# EAGLE library part IS31FL3743B (library ts_kb_mcu)
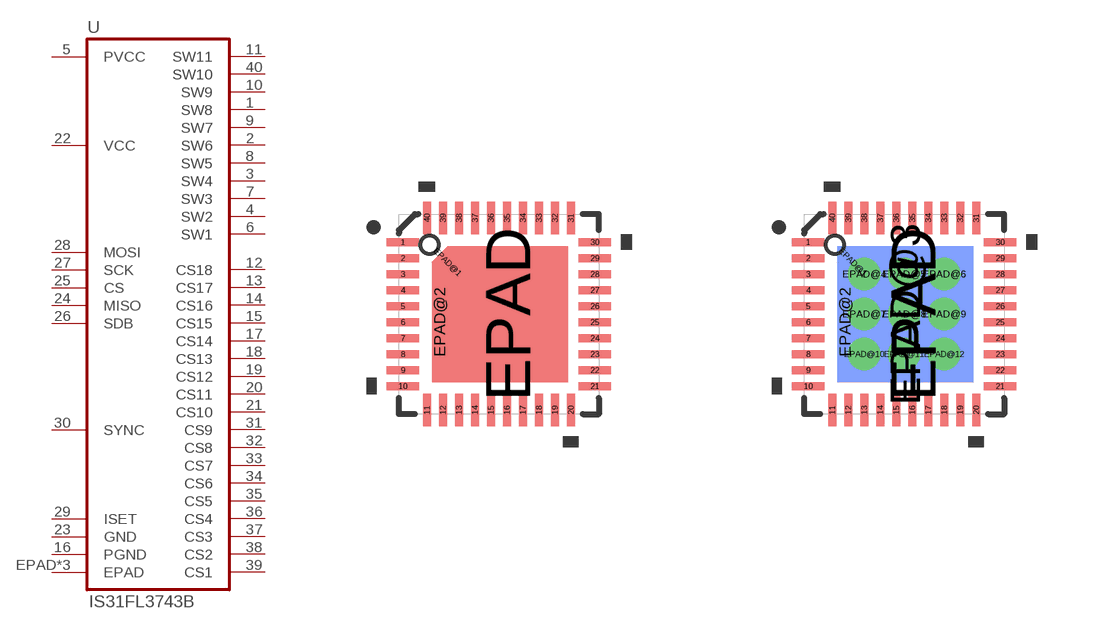
[diagram p4: symbol with the pads of UQFN40; footprints UQFN40, UQFN40_THERM]

Designator prefix -

## IS31FL3743B  [UQFN40]
1  SW8  pas
2  SW6  pas
3  SW4
4  SW2
5  PVCC
6  SW1
7  SW3
8  SW5  pas
9  SW7  pas
10  SW9  pas
11  SW11  pas
12  CS18
13  CS17
14  CS16
15  CS15
16  PGND
17  CS14
18  CS13
19  CS12
20  CS11
21  CS10
22  VCC
23  GND
24  MISO
25  CS
26  SDB
27  SCK
28  MOSI
29  ISET
30  SYNC  pas
31  CS9
32  CS8
33  CS7
34  CS6
35  CS5
36  CS4
37  CS3
38  CS2
39  CS1
40  SW10  pas
EPAD  EPAD
EPAD@1  EPAD
EPAD@2  EPAD

## IS31FL3743BTHERM  [UQFN40_THERM]
1  SW8  pas
2  SW6  pas
3  SW4
4  SW2
5  PVCC
6  SW1
7  SW3
8  SW5  pas
9  SW7  pas
10  SW9  pas
11  SW11  pas
12  CS18
13  CS17
14  CS16
15  CS15
16  PGND
17  CS14
18  CS13
19  CS12
20  CS11
21  CS10
22  VCC
23  GND
24  MISO
25  CS
26  SDB
27  SCK
28  MOSI
29  ISET
30  SYNC  pas
31  CS9
32  CS8
33  CS7
34  CS6
35  CS5
36  CS4
37  CS3
38  CS2
39  CS1
40  SW10  pas
EPAD  EPAD
EPAD@1  EPAD
EPAD@2  EPAD
EPAD@3  EPAD
EPAD@4  EPAD
EPAD@5  EPAD
EPAD@6  EPAD
EPAD@7  EPAD
EPAD@8  EPAD
EPAD@9  EPAD
EPAD@10  EPAD
EPAD@11  EPAD
EPAD@12  EPAD

## Footprint UQFN40 (pad centres in mm)
smd 0.813 x 0.203: 1 -2.4,1.8; 2 -2.4,1.4; 3 -2.4,1; 4 -2.4,0.6; 5 -2.4,0.2; 6 -2.4,-0.2; 7 -2.4,-0.6; 8 -2.4,-1; 9 -2.4,-1.4; 10 -2.4,-1.8; 21 2.4,-1.8; 22 2.4,-1.4; 23 2.4,-1; 24 2.4,-0.6; 25 2.4,-0.2; 26 2.4,0.2; 27 2.4,0.6; 28 2.4,1; 29 2.4,1.4; 30 2.4,1.8
smd 0.203 x 0.813: 11 -1.8,-2.4; 12 -1.4,-2.4; 13 -1,-2.4; 14 -0.6,-2.4; 15 -0.2,-2.4; 16 0.2,-2.4; 17 0.6,-2.4; 18 1,-2.4; 19 1.4,-2.4; 20 1.8,-2.4; 31 1.8,2.4; 32 1.4,2.4; 33 1,2.4; 34 0.6,2.4; 35 0.2,2.4; 36 -0.2,2.4; 37 -0.6,2.4; 38 -1,2.4; 39 -1.4,2.4; 40 -1.8,2.4
smd 3 x 3.4: EPAD 0.225,0
smd 0.566 x 0.566 rotated 315: EPAD@1 -1.278,1.299
smd 0.4 x 3: EPAD@2 -1.477,-0.2

## Footprint UQFN40_THERM (pad centres in mm)
smd 0.813 x 0.203: 1 -2.4,1.8; 2 -2.4,1.4; 3 -2.4,1; 4 -2.4,0.6; 5 -2.4,0.2; 6 -2.4,-0.2; 7 -2.4,-0.6; 8 -2.4,-1; 9 -2.4,-1.4; 10 -2.4,-1.8; 21 2.4,-1.8; 22 2.4,-1.4; 23 2.4,-1; 24 2.4,-0.6; 25 2.4,-0.2; 26 2.4,0.2; 27 2.4,0.6; 28 2.4,1; 29 2.4,1.4; 30 2.4,1.8
smd 0.203 x 0.813: 11 -1.8,-2.4; 12 -1.4,-2.4; 13 -1,-2.4; 14 -0.6,-2.4; 15 -0.2,-2.4; 16 0.2,-2.4; 17 0.6,-2.4; 18 1,-2.4; 19 1.4,-2.4; 20 1.8,-2.4; 31 1.8,2.4; 32 1.4,2.4; 33 1,2.4; 34 0.6,2.4; 35 0.2,2.4; 36 -0.2,2.4; 37 -0.6,2.4; 38 -1,2.4; 39 -1.4,2.4; 40 -1.8,2.4
smd 3 x 3.4: EPAD 0.225,0
smd 0.566 x 0.566 rotated 315: EPAD@1 -1.278,1.299
smd 0.4 x 3: EPAD@2 -1.477,-0.2
smd 3.4 x 3.4 bottom: EPAD@3 0.025,0
drill 0.3: EPAD@4 -1,1; EPAD@5 0,1; EPAD@6 1,1; EPAD@7 -1,0; EPAD@8 0,0; EPAD@9 1,0; EPAD@10 -1,-1; EPAD@11 0,-1; EPAD@12 1,-1